# Altium schematic symbol library SimpleMonitorUSBAER.SCHLIB: 8 symbols
Pins are listed as number, name and electrical type; pins without a type are passive.

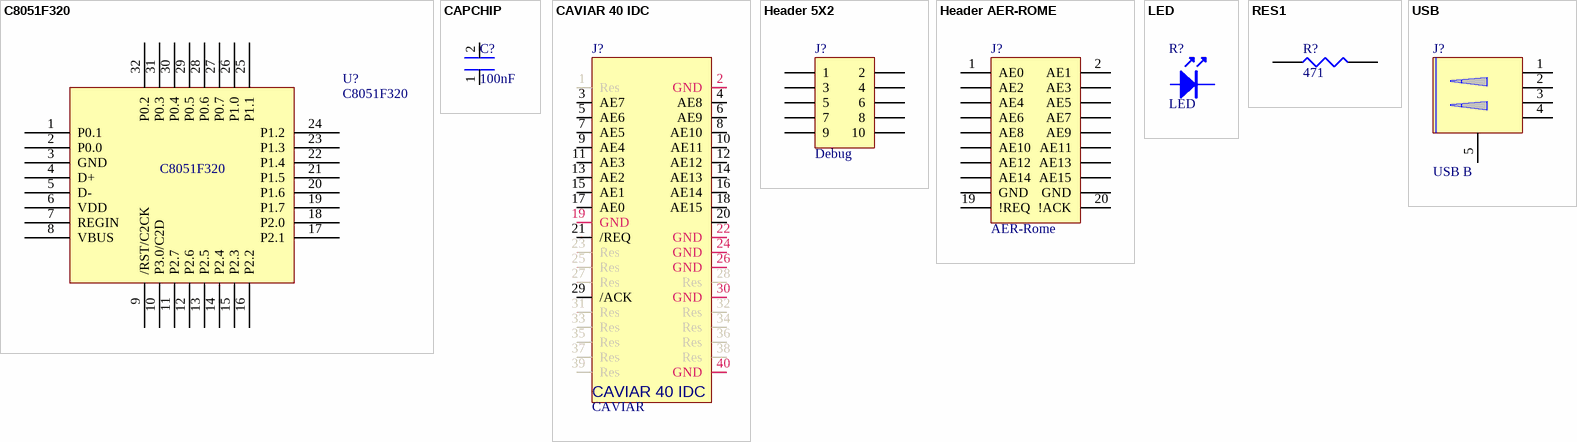
[diagram p0: symbols C8051F320 to USB]

## C8051F320
designator U?
Silicon Labs USB Microcontroller
footprint TQFP32
pins: 1 P0.1, 2 P0.0, 3 GND, 4 D+, 5 D-, 6 VDD, 7 REGIN, 8 VBUS, 9 /RST/C2CK, 10 P3.0/C2D, 11 P2.7, 12 P2.6, 13 P2.5, 14 P2.4, 15 P2.3, 16 P2.2, 17 P2.1, 18 P2.0, 19 P1.7, 20 P1.6, 21 P1.5, 22 P1.4, 23 P1.3, 24 P1.2, 25 P1.1, 26 P1.0, 27 P0.7, 28 P0.6, 29 P0.5, 30 P0.4, 31 P0.3, 32 P0.2

## CAPCHIP
designator C?, comment 100nF
footprint CC3216-1206
pins: 1 "probe point", 2 "probe point"

## CAVIAR 40 IDC
designator J?, comment CAVIAR
CAVIAR 40 pin IDC header
footprint HDR2X20
footprint HDR2X20 with shell (IDC 40 with PCB plastic shell)
pins: 1 Res "p type arbiter pullup for cols", 2 GND (power), 3 AE7, 4 AE8 (hiz), 5 AE6 (hiz), 6 AE9 (hiz), 7 AE5 (hiz), 8 AE10 (hiz), 9 AE4 (hiz), 10 AE11 (hiz), 11 AE3 (hiz), 12 AE12 (hiz), 13 AE2 (hiz), 14 AE13 (hiz), 15 AE1 (hiz), 16 AE14 (hiz), 17 AE0 (hiz), 18 AE15 (hiz), 19 GND (power), 20 (hiz), 21 /REQ (hiz), 22 GND (power), 23 Res, 24 GND (power), 25 Res, 26 GND (power), 27 Res, 28 Res, 29 /ACK (hiz), 30 GND (power), 31 Res, 32 Res, 33 Res, 34 Res, 35 Res, 36 Res, 37 Res, 38 Res, 39 Res, 40 GND (power)

## Header 5X2
designator J?, comment Debug
Header, 5-Pin, Dual row; Revision: 17-Jul-2002: Re-released for DXP Platform.; Publisher: Altium Limited
footprint HDR2X5 (Connector; Header; 5x2 Position)
signal-integrity model Connector
pins: 1, 2, 3, 4, 5, 6, 7, 8, 9, 10

## Header AER-ROME
designator J?, comment AER-Rome
AER-Rome 20-Pin, Dual row, with IDC mounting clips; Manufacturer: Generic Components; Class: Connector
footprint HDR10x2 w/clips (10x2 IDC header with clips)
signal-integrity model Connector
pins: 1 AE0, 2 AE1, 3 AE2, 4 AE3, 5 AE4, 6 AE5, 7 AE6, 8 AE7, 9 AE8, 10 AE9, 11 AE10, 12 AE11, 13 AE12, 14 AE13, 15 AE14, 16 AE15, 17 GND, 18 GND, 19 !REQ, 20 !ACK

## LED
designator R?
LED, SMT 3mm by 1.5mm
footprint LED
footprint 0805LED
pins: + 1, - 2

## RES1
designator R?, comment 471
footprint CR2012-0805 (1206)
pins: 1, 2

## USB
designator J?, comment USB B
USB TypB
footprint usb
pins: 1, 2, 3, 4, 5